# Altium schematic symbol library TSM-102-01-L-SH-P-TR.SchLib: 1 symbol
Pins are listed as number, name and electrical type; pins without a type are passive.

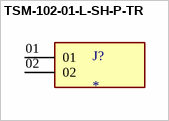
[diagram p0: symbol TSM-102-01-L-SH-P-TR]

## TSM-102-01-L-SH-P-TR
designator J?
MP: TSM-102-01-L-SH-P-TR; MF: Samtec; Availability: Unavailable; Price: None; Package: None; Value: *
footprint SAMTEC_TSM-102-01-L-SH-P-TR
pins: 01, 02